# Altium footprint library Pcb_WS_v4.PcbLib: 33 footprints (part 1 of 3)
Each footprint in its own frame and in the unit in brackets; x right, y up, seen from the top. Pads: shape width x height; smd on the part's side, far side on the other; paste and mask are expansions set on the pad; w line width, h text height; cw(c..) or ccw(c..) is an arc to the next point about the centre after c.
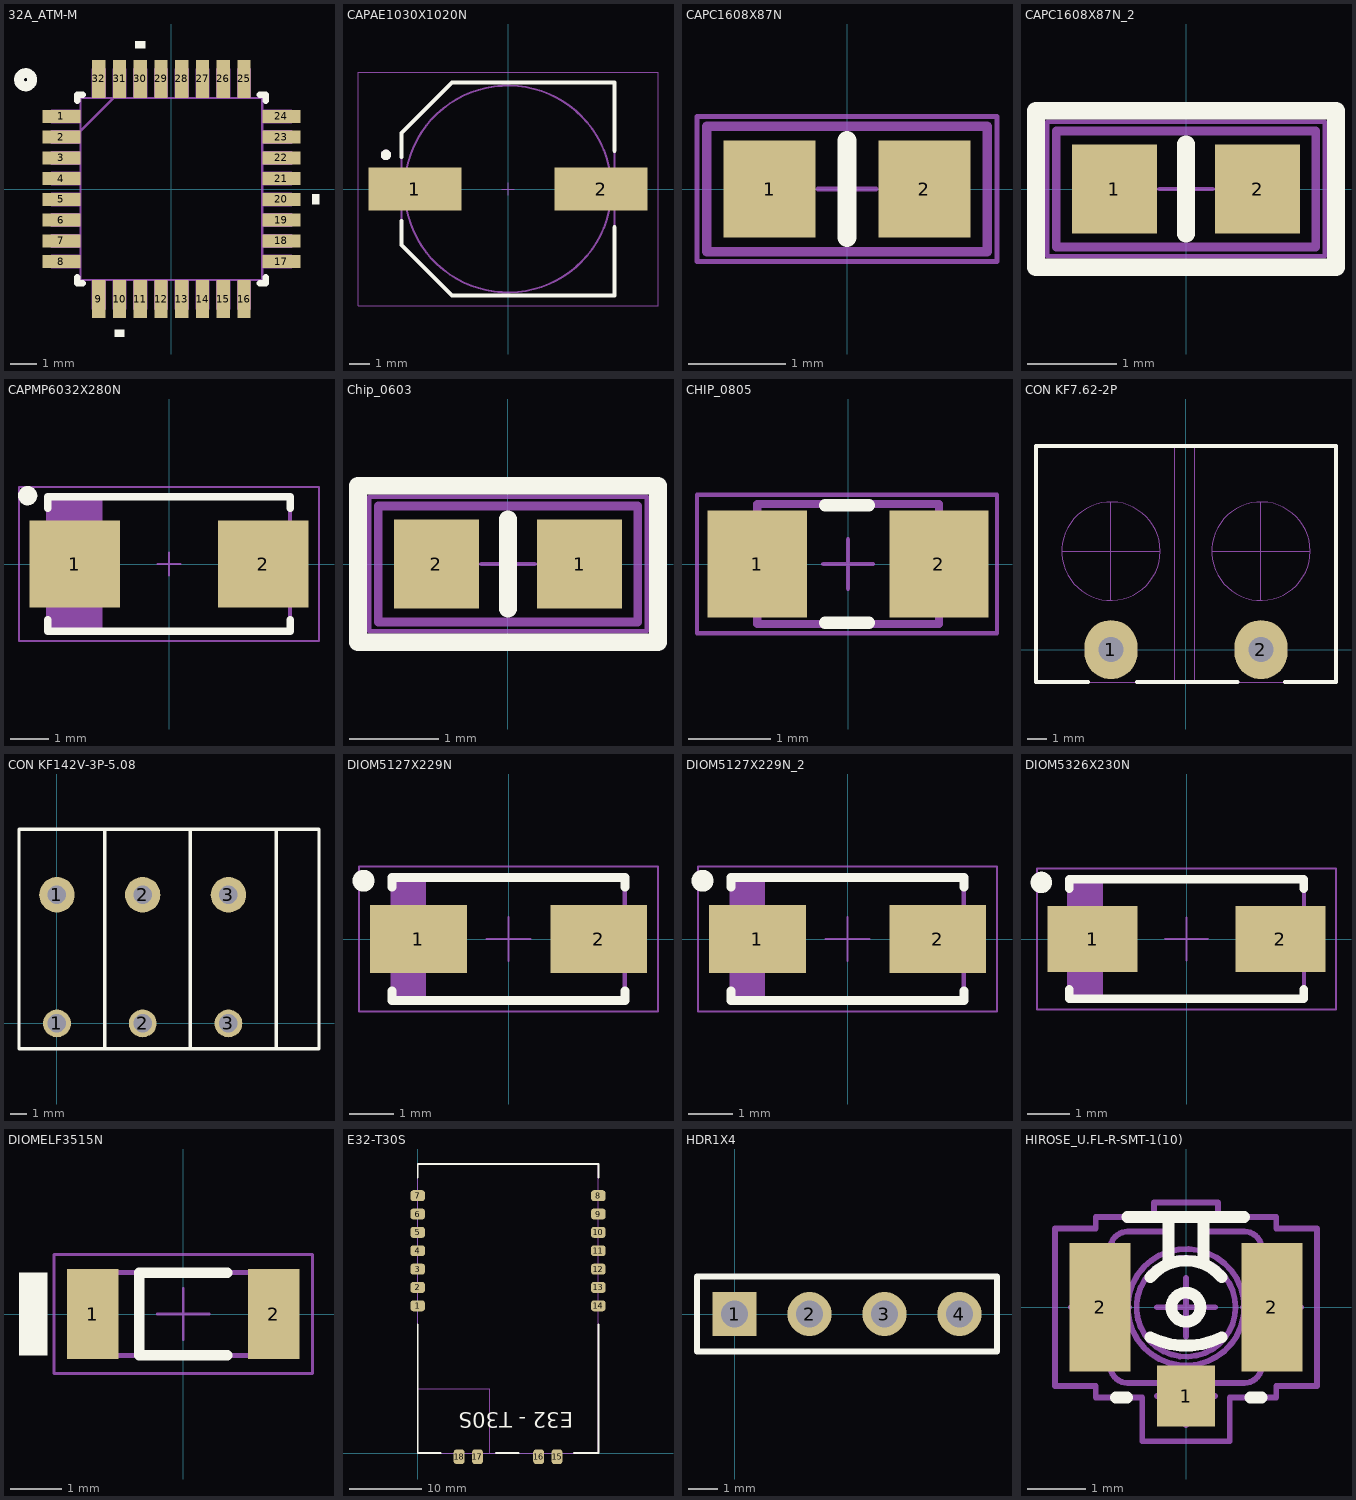
[diagram p0: the footprints below, top view; thin cyan lines are the x and y axes]

## 32A_ATM-M [mil]
pads (32):
  rect 58x20 smd: 1(-167,110.24) 2(-167,78.74) 3(-167,47.24) 4(-167,15.75) 5(-167,-15.75) 6(-167,-47.24) 7(-167,-78.74) 8(-167,-110.24) 17(167,-110.24) 18(167,-78.74) 19(167,-47.24) 20(167,-15.75) 21(167,15.75) 22(167,47.24) 23(167,78.74) 24(167,110.24)
  rect 20x58 smd: 9(-110.24,-167) 10(-78.74,-167) 11(-47.24,-167) 12(-15.75,-167) 13(15.75,-167) 14(47.24,-167) 15(78.74,-167) 16(110.24,-167) 25(110.24,167) 26(78.74,167) 27(47.24,167) 28(15.75,167) 29(-15.75,167) 30(-47.24,167) 31(-78.74,167) 32(-110.24,167)
Top Overlay:
  circle w15: c-221.33,165.84 r10
  region: -39.74,214 -54.74,214 -54.74,224 -39.74,224
  region: 214,-8.25 224,-8.25 224,-23.25 214,-23.25
  region: -71.24,-214 -86.24,-214 -86.24,-224 -71.24,-224
  lines w10: -143,-134.34 -143,-143 -134.34,-143 ; -143,134.34 -143,143 -134.34,143 ; 134.34,-143 143,-143 143,-134.34 ; 134.34,143 143,143 143,134.34
Top Assembly:
  lines w3.4: -138,88 -88,138 ; -182,-119.24 -138,-119.24 -138,-101.24 -182,-101.24 -182,-119.24 ; -182,-87.74 -182,-69.74 -138,-69.74 -138,-87.74 -182,-87.74 ; -182,-56.24 -182,-38.24 -138,-38.24 -138,-56.24 -182,-56.24 ; -182,-24.75 -182,-6.75 -138,-6.75 -138,-24.75 -182,-24.75 ; -182,6.75 -182,24.75 -138,24.75 -138,6.75 -182,6.75 ; -182,38.24 -138,38.24 -138,56.24 -182,56.24 -182,38.24 ; -182,69.74 -182,87.74 -138,87.74 -138,69.74 -182,69.74 ; -182,101.24 -182,119.24 -138,119.24 -138,101.24 -182,101.24 ; -138,-138 138,-138 138,138 -138,138 -138,-138 ; -119.24,-182 -119.24,-138 -101.24,-138 -101.24,-182 -119.24,-182 ; -119.24,138 -119.24,182 -101.24,182 -101.24,138 -119.24,138 ; -87.74,-182 -69.74,-182 -69.74,-138 -87.74,-138 -87.74,-182 ; -87.74,138 -69.74,138 -69.74,182 -87.74,182 -87.74,138 ; -56.24,-182 -56.24,-138 -38.24,-138 -38.24,-182 -56.24,-182 ; -56.24,138 -56.24,182 -38.24,182 -38.24,138 -56.24,138 ; -24.75,-182 -24.75,-138 -6.75,-138 -6.75,-182 -24.75,-182 ; -24.75,138 -24.75,182 -6.75,182 -6.75,138 -24.75,138 ; 6.75,-182 6.75,-138 24.75,-138 24.75,-182 6.75,-182 ; 6.75,138 6.75,182 24.75,182 24.75,138 6.75,138 ; 38.24,-182 38.24,-138 56.24,-138 56.24,-182 38.24,-182 ; 38.24,138 38.24,182 56.24,182 56.24,138 38.24,138 ; 69.74,-182 87.74,-182 87.74,-138 69.74,-138 69.74,-182 ; 69.74,138 87.74,138 87.74,182 69.74,182 69.74,138 ; 101.24,-182 101.24,-138 119.24,-138 119.24,-182 101.24,-182 ; 101.24,138 101.24,182 119.24,182 119.24,138 101.24,138 ; 138,-119.24 182,-119.24 182,-101.24 138,-101.24 138,-119.24 ; 138,-87.74 138,-69.74 182,-69.74 182,-87.74 138,-87.74 ; 138,-56.24 138,-38.24 182,-38.24 182,-56.24 138,-56.24 ; 138,-24.75 138,-6.75 182,-6.75 182,-24.75 138,-24.75 ; 138,6.75 138,24.75 182,24.75 182,6.75 138,6.75 ; 138,38.24 182,38.24 182,56.24 138,56.24 138,38.24 ; 138,69.74 138,87.74 182,87.74 182,69.74 138,69.74 ; 138,101.24 138,119.24 182,119.24 182,101.24 138,101.24
3D body "32A_ATM.step": height 47.09, standoff 0, extent -182,-182 182.01,182.01
3D body: height 10, standoff 0, extent 0,0 10,10

## CAPAE1030X1020N [mm] "Capacitor, Aluminium Electrolytric, 10.3mm L X 10.3mm W X 10.2mm H, IPC Medium Density"
height 10.2
pads (2):
  rect 4.5x2.1 smd: 1(-4.5,0) 2(4.5,0)
Top Overlay:
  circle w0.25: c-5.9,1.65 r0.125
  lines w0.2: -5.15,-1.55 -5.15,-2.35 -5.15,-2.7 -2.7,-5.15 5.15,-5.15 5.15,-1.85 ; -5.15,1.55 -5.15,2.7 -2.7,5.15 5.15,5.15 5.15,1.85
Top Assembly:
  circle w0.25: c-5.899,1.651 r0.125
  circle w0.1: c0,0 r5
  lines w0.1: -5.15,-2.7 -5.15,2.7 -2.7,5.15 5.15,5.15 5.15,-5.15 -2.7,-5.15 -5.15,-2.7
Mechanical 15:
  lines w0.05: -0.3,0 0.3,0 ; 0,-0.3 0,0.3 ; -7.25,-5.65 7.25,-5.65 7.25,5.65 -7.25,5.65 -7.25,-5.65
3D body "CAPAE1030X1020N.stp": height 10.2, standoff 0, extent -6,-5.25 6,5.25

## CAPC1608X87N [mm] "Chip Capacitor, Body 1.6x0.8mm IPC Medium Density"
height 0.87
pads (2):
  rect 0.95x1 smd: 1(-0.8,0) 2(0.8,0)
Top Overlay:
  lines w0.2: 0,-0.5 0,0.5
Mechanical 14:
  lines w0.1: -1.45,-0.65 1.45,-0.65 1.45,0.65 -1.45,0.65 -1.45,-0.65
Mechanical 15:
  lines w0.05: -0.3,0 0.3,0 ; 0,-0.3 0,0.3 ; -1.55,-0.75 -1.55,0.75 1.55,0.75 1.55,-0.75 -1.55,-0.75
3D body "CAPC1608X87N.stp": height 0.87, standoff 0, extent -0.875,-0.475 0.875,0.475

## CAPC1608X87N_2 [mm]
pads (2):
  rect 0.95x1 smd: 1(-0.8,0) 2(0.8,0)
Top Overlay:
  lines w0.2: 0,-0.5 0,0.5 ; -1.676,-0.875 -1.676,0.875 1.676,0.875 1.676,-0.875 -1.676,-0.875
Top Assembly:
  lines w0.1: -1.45,-0.65 -1.45,0.65 1.45,0.65 1.45,-0.65 -1.45,-0.65
Mechanical 15:
  lines w0.05: -0.3,0 0.3,0 ; 0,-0.3 0,0.3 ; -1.55,-0.75 1.55,-0.75 1.55,0.75 -1.55,0.75 -1.55,-0.75
3D body "CAPC1608X87N.stp": height 0.87, standoff 0, extent -0.875,-0.475 0.875,0.475

## CAPMP6032X280N [mm] "Capacitor, Polarized, Molded  Body 6.0x3.2mm, IPC Medium Density"
height 2.8
pads (2):
  rect 2.35x2.25 smd: 1(-2.45,0) 2(2.45,0)
Top Overlay:
  circle w0.25: c-3.675,1.775 r0.125
  lines w0.2: -3.15,-1.45 -3.15,-1.75 3.15,-1.75 3.15,-1.45 ; -3.15,1.45 -3.15,1.75 3.15,1.75 3.15,1.45
Top Assembly:
  lines w0.1: -3.05,-1.725 -3.05,1.75 ; -2.975,-1.725 -2.975,1.75 ; -2.9,-1.725 -2.9,1.75 ; -2.825,-1.725 -2.825,1.75 ; -2.75,-1.725 -2.75,1.75 ; -2.675,-1.725 -2.675,1.75 ; -2.6,-1.725 -2.6,1.75 ; -2.525,-1.725 -2.525,1.75 ; -2.45,-1.725 -2.45,1.75 ; -2.375,-1.725 -2.375,1.75 ; -2.3,-1.725 -2.3,1.75 ; -2.225,-1.725 -2.225,1.75 ; -2.15,-1.725 -2.15,1.75 ; -2.075,-1.725 -2.075,1.75 ; -2,-1.725 -2,1.75 ; -1.925,-1.725 -1.925,1.75 ; -1.85,-1.725 -1.85,1.75 ; -1.775,-1.725 -1.775,1.75 ; -3.15,-1.725 3.15,-1.725 3.15,1.75 -3.15,1.75 -3.15,-1.725
Mechanical 15:
  lines w0.05: -0.3,0 0.3,0 ; 0,-0.3 0,0.3 ; -3.9,-2 3.9,-2 3.9,2 -3.9,2 -3.9,-2
3D body "CAPMP6032X280N.stp": height 2.8, standoff 0, extent -3.15,-1.75 3.15,1.75

## Chip_0603 [mm]
height 0.55
pads (2):
  rect 0.95x1 smd: 1(0.8,0) 2(-0.8,0)
Top Overlay:
  lines w0.2: 0,-0.5 0,0.5 ; -1.676,-0.875 1.676,-0.875 1.676,0.875 -1.676,0.875 -1.676,-0.875
Top Assembly:
  lines w0.1: -1.45,-0.65 1.45,-0.65 1.45,0.65 -1.45,0.65 -1.45,-0.65
Mechanical 15:
  lines w0.05: -0.3,0 0.3,0 ; 0,-0.3 0,0.3 ; -1.55,-0.75 1.55,-0.75 1.55,0.75 -1.55,0.75 -1.55,-0.75
3D body "INDC1608X95.STEP": height 0.95, standoff 0, extent -0.8,-0.4 0.8,0.4

## CHIP_0805 [mm]
height 1.45
pads (2):
  rect 1.2x1.3 smd mask+0.064: 1(-1.1,0) 2(1.1,0)
Top Overlay:
  lines w0.15: -0.279,-0.711 0.254,-0.711 ; -0.279,0.711 0.254,0.711
Top Assembly:
  lines w0.1: -1.1,-0.725 -1.1,0.725 1.1,0.725 1.1,-0.725 -1.1,-0.725
Mechanical 15:
  lines w0.05: -0.3,0 0.3,0 ; 0,-0.3 0,0.3 ; -1.829,-0.838 -1.829,0.838 1.803,0.838 1.803,-0.838 -1.829,-0.838
3D body "CAPC_0805.STEP": height 0.88, standoff 0, extent -1,-0.625 1,0.625

## CON KF7.62-2P [mm]
pads (2):
  oval 2.7x3 hole 1.26: 1(-3.81,0) 2(3.81,0)
Top Overlay:
  lines w0.2: -4.967,-1.65 -7.62,-1.65 -7.62,10.35 7.62,10.35 7.62,-1.65 5.034,-1.65 ; -2.501,-1.65 2.617,-1.65
Top Assembly:
  circle w0.05: c-3.81,5 r2.5
  circle w0.05: c3.81,5 r2.5
  lines w0.05: -6.31,5 -1.31,5 ; -3.81,2.5 -3.81,7.5 ; -0.56,-1.65 -0.56,10.35 0.44,10.35 0.44,-1.65 ; 1.31,5 6.31,5 ; 3.81,2.5 3.81,7.5 ; -7.62,-1.65 7.62,-1.65 7.62,10.35 -7.62,10.35 -7.62,-1.65
3D body "User Library-kf7_62-2p.STEP": height 12.4, standoff -6.3, extent -7.62,-1.65 7.62,10.35

## CON KF142V-3P-5.08 [mm]
height 14.1
pads (6):
  round 1.65 hole 1.1: 1(0,0) 2(5.08,0) 3(10.16,0)
  round 2.1 hole 1.1: 1(0,7.62) 2(5.08,7.62) 3(10.16,7.62)
Top Overlay:
  lines w0.2: 2.83,-1.5 2.83,11.5 ; 2.93,-1.5 14.08,-1.5 ; 2.93,11.5 13.68,11.5 ; 5.08,11.5 10.45,11.5 ; 7.91,-1.5 7.91,11.5 ; 8.08,-1.5 10.45,-1.5 ; 8.6,11.5 -2.25,11.5 -2.25,-1.5 9,-1.5 ; 10.16,11.5 15.53,11.5 15.53,10.74 15.53,0 15.53,-1.5 13.16,-1.5 ; 12.99,-1.5 12.99,11.5
Top Assembly:
  lines w0.05: 2.83,-1.5 2.83,11.5 ; 2.93,-1.5 14.08,-1.5 ; 2.93,11.5 13.68,11.5 ; 5.08,11.5 10.45,11.5 ; 7.91,-1.5 7.91,11.5 ; 8.08,-1.5 10.45,-1.5 ; 8.6,11.5 -2.25,11.5 -2.25,-1.5 9,-1.5 ; 10.16,11.5 15.53,11.5 15.53,10.74 15.53,0 15.53,-1.5 13.16,-1.5 ; 12.99,-1.5 12.99,11.5
3D body "3.STEP": height 14.23, standoff -3.37, extent -2.135,-1.567 15.545,11.633

## DIOM5127X229N [mm] "DO-214-AC/SMA Molded Diode, 2-Leads, Body 5.1x2.7mm, IPC Medium Density"
height 2.29
pads (2):
  rect 2.2x1.55 smd: 1(-2.05,0) 2(2.05,0)
Top Overlay:
  circle w0.25: c-3.3,1.325 r0.125
  lines w0.2: -2.65,-1.175 -2.65,-1.4 2.65,-1.4 2.65,-1.175 ; -2.65,1.175 -2.65,1.4 2.65,1.4 2.65,1.175
Top Assembly:
  lines w0.1: -2.6,-1.395 -2.6,1.395 ; -2.525,-1.395 -2.525,1.395 ; -2.475,-1.395 -2.475,1.395 ; -2.4,-1.395 -2.4,1.395 ; -2.325,-1.395 -2.325,1.395 ; -2.25,-1.395 -2.25,1.395 ; -2.175,-1.395 -2.175,1.395 ; -2.1,-1.395 -2.1,1.395 ; -2.025,-1.395 -2.025,1.395 ; -1.93,-1.395 -1.93,1.395 ; -2.64,-1.395 2.64,-1.395 2.64,1.395 -2.64,1.395 -2.64,-1.395
Mechanical 15:
  lines w0.05: -0.5,0 0.5,0 ; 0,-0.5 0,0.5 ; -3.4,-1.65 3.4,-1.65 3.4,1.65 -3.4,1.65 -3.4,-1.65
3D body "DIOM5127X229N.stp": height 2.29, standoff 0, extent -2.675,-1.45 2.675,1.45

## DIOM5127X229N_2 [mm]
pads (2):
  rect 2.2x1.55 smd: 1(-2.05,0) 2(2.05,0)
Top Overlay:
  circle w0.25: c-3.3,1.325 r0.125
  lines w0.2: -2.65,-1.175 -2.65,-1.4 2.65,-1.4 2.65,-1.175 ; -2.65,1.175 -2.65,1.4 2.65,1.4 2.65,1.175
Top Assembly:
  lines w0.1: -2.6,-1.395 -2.6,1.395 ; -2.525,-1.395 -2.525,1.395 ; -2.475,-1.395 -2.475,1.395 ; -2.4,-1.395 -2.4,1.395 ; -2.325,-1.395 -2.325,1.395 ; -2.25,-1.395 -2.25,1.395 ; -2.175,-1.395 -2.175,1.395 ; -2.1,-1.395 -2.1,1.395 ; -2.025,-1.395 -2.025,1.395 ; -1.93,-1.395 -1.93,1.395 ; -2.64,-1.395 2.64,-1.395 2.64,1.395 -2.64,1.395 -2.64,-1.395
Mechanical 15:
  lines w0.05: -0.5,0 0.5,0 ; 0,-0.5 0,0.5 ; -3.4,-1.65 3.4,-1.65 3.4,1.65 -3.4,1.65 -3.4,-1.65
3D body "DIOM5127X229N.stp": height 2.29, standoff 0, extent -2.675,-1.45 2.675,1.45

## DIOM5326X230N [mm] "DO-214-AC/SMA Molded Diode, Body 5.3x2.6mm, IPC Medium Density"
height 2.3
pads (2):
  rect 2.1x1.55 smd: 1(-2.2,0) 2(2.2,0)
Top Overlay:
  circle w0.25: c-3.4,1.325 r0.125
  lines w0.2: -2.75,-1.175 -2.75,-1.4 2.75,-1.4 2.75,-1.175 ; -2.75,1.175 -2.75,1.4 2.75,1.4 2.75,1.175
Top Assembly:
  lines w0.1: -2.66,-1.4 -2.66,1.4 ; -2.61,-1.4 -2.61,1.4 ; -2.535,-1.4 -2.535,1.4 ; -2.46,-1.4 -2.46,1.4 ; -2.385,-1.4 -2.385,1.4 ; -2.31,-1.4 -2.31,1.4 ; -2.235,-1.4 -2.235,1.4 ; -2.16,-1.4 -2.16,1.4 ; -2.085,-1.4 -2.085,1.4 ; -2.01,-1.4 -2.01,1.4 ; -2.75,-1.4 2.75,-1.4 2.75,1.4 -2.75,1.4 -2.75,-1.4
Mechanical 15:
  lines w0.05: -0.5,0 0.5,0 ; 0,-0.5 0,0.5 ; -3.5,-1.65 3.5,-1.65 3.5,1.65 -3.5,1.65 -3.5,-1.65
3D body "DIOM5326X230N.stp": height 2.3, standoff 0, extent -2.75,-1.4 2.75,1.4

## DIOMELF3515N [mm] "SOD80C, MELF Diode, 2-Leads, Body 3.5x1.5mm, IPC Medium Density"
height 1.6
pads (2):
  rect 1x1.75 smd: 1(-1.75,0) 2(1.75,0)
Top Overlay:
  rectangle: -3.176,-0.8 -2.626,0.8
  lines w0.2: 0.85,-0.8 -0.85,-0.8 -0.85,0.8 0.85,0.8
Top Assembly:
  lines w0.1: -1.802,-0.8 -1.802,0.8 ; -1.727,-0.8 -1.727,0.8 ; -1.652,-0.8 -1.652,0.8 ; -1.577,-0.8 -1.577,0.8 ; -1.502,-0.8 -1.502,0.8 ; -1.427,-0.8 -1.427,0.8 ; -1.352,-0.8 -1.352,0.8 ; -1.85,-0.8 -1.85,0.8 1.85,0.8 1.85,-0.8 -1.85,-0.8
Mechanical 15:
  lines w0.05: -0.5,0 0.5,0 ; 0,-0.5 0,0.5 ; -2.5,-1.15 -2.5,1.15 2.5,1.15 2.5,-1.15 -2.5,-1.15
3D body "DIOMELF3515N.stp": height 1.6, standoff 0, extent -1.85,-0.8 1.85,0.8

## E32-T30S [mm] "Lora-EBYTE-21~30dBm-UART-SX1278-25x40mm"
height 3.8
pads (18):
  rrect50% 2x1.5 smd: 1(0,20.38) 2(0,22.92) 3(0,25.46) 4(0,28) 5(0,30.54) 6(0,33.08) 7(0,35.62) 8(24.98,35.62) 9(24.98,33.08) 10(24.98,30.54) 11(24.98,28) 12(24.98,25.46) 13(24.98,22.92) 14(24.98,20.38)
  rrect50% 1.5x2 smd: 15(19.27,-0.5) 16(16.73,-0.5) 17(8.27,-0.5) 18(5.73,-0.5)
Top Overlay:
  lines w0.254: 0,17.78 0,0 3.175,0 ; 0,38.1 0,40 25,40 25,38.1 ; 10.795,0 13.97,0 ; 21.59,0 25,0 25,17.78
  text "E32 - T30S" at 21.499,6.372 h3.6
Top Assembly:
  lines w0.05: 0,8.89 10,8.89 10,0 ; 0,0 0,40 25,40 25,0 0,0
  text "ANT" at 6.25,1.25 h1
3D body: height 3.5, standoff 0.1, extent 0,0 25,40
3D body: height 1.1, standoff 0.1, extent 0,0 10.16,8.89
3D body "User Library-IPEX.step": height 2.35, standoff 1.09, extent 1.879,2.488 4.979,5.488

## HDR1X4 [mm] "Connector; Header; 4 Position"
pads (4):
  rect 1.5x1.5 hole 0.9: 1(0,0)
  round 1.5 hole 0.9: 2(2.54,0) 3(5.08,0) 4(7.62,0)
Top Overlay:
  lines w0.2: -1.27,-1.27 8.89,-1.27 8.89,1.27 -1.27,1.27 -1.27,-1.27

## HIROSE_U.FL-R-SMT-1(10) [mm] "Up to 6GHz Ultra Small Surface Mount Male Coaxial Connectors U.FL Series"
height 1.25
pads (3):
  rect 1x1.05 smd: 1(0,-1.525)
  rect 1.05x2.2 smd: 2(-1.475,0) 2(1.475,0)
Top Overlay:
  circle w0.2: c0,0 r0.25
  lines w0.2: -1.208,-1.549 -1.008,-1.549 ; -1.008,1.55 -0.308,1.55 ; -0.612,-0.516 ccw(c0,0.704) 0.612,-0.516 ; -0.612,0.516 cw(c0,0) 0.612,0.516 ; -0.3,0.75 -0.3,1.55 0.3,1.55 ; 0.3,0.75 0.3,1.55 ; 1,1.55 0.3,1.55 ; 1.1,-1.549 1.3,-1.549
Mechanical 8:
  lines w0.1: -1.975,0 -1.475,0 ; -1.475,-0.5 -1.475,0 ; -1.475,0.5 -1.475,0 ; -0.975,0 -1.475,0 ; -0.5,-1.525 0,-1.525 ; -0.5,0 0,0 ; 0,-2.025 0,-1.525 ; 0,-1.025 0,-1.525 ; 0,-0.5 0,0 ; 0,0.5 0,0 ; 0.5,-1.525 0,-1.525 ; 0.5,0 0,0 ; 0.975,0 1.475,0 ; 1.475,-0.5 1.475,0 ; 1.475,0.5 1.475,0 ; 1.975,0 1.475,0
Top Assembly:
  circle w0.1: c0,0 r1
  circle w0.1: c0,0 r0.85
  circle w0.1: c0,0 r0.25
  lines w0.1: -1.3,-0.9 -1.5,-0.9 -1.5,0.9 -1.3,0.9 ; -0.3,-1.3 -0.3,-1.55 0.3,-1.55 0.3,-1.3 ; -0.3,0.954 -0.3,1.55 0.3,1.55 0.3,0.954 ; -0.3,1.3 -1,1.3 ccw(c-1,1) -1.3,1 -1.3,-1 ccw(c-1,-1) -1,-1.3 1,-1.3 ccw(c1,-1) 1.3,-1 1.3,1 ccw(c1,1) 1,1.3 0.3,1.3 ; 1.3,-0.9 1.5,-0.9 1.5,0.9 1.3,0.9
Mechanical 15:
  lines w0.1: 0.75,1.55 1.55,1.55 ; 1.55,1.55 0.55,1.55 0.55,1.8 -0.55,1.8 -0.55,1.55 -1.55,1.55 -1.55,1.35 -2.25,1.35 -2.25,-1.35 -1.55,-1.35 -1.55,-1.55 -0.75,-1.55 -0.75,-2.3 0.75,-2.3 0.75,-1.55 1.55,-1.55 1.55,-1.35 2.25,-1.35 2.25,1.35 1.55,1.35 1.55,1.55
3D body "HIROSE_U.FL-R-SMT-1(10).stp": height 1.25, standoff 0, extent -1.5,-1.55 1.5,1.55